# Altium integrated library Microchip Memory I2C Serial EEPROM.IntLib: 992 symbols (part 6 of 23)
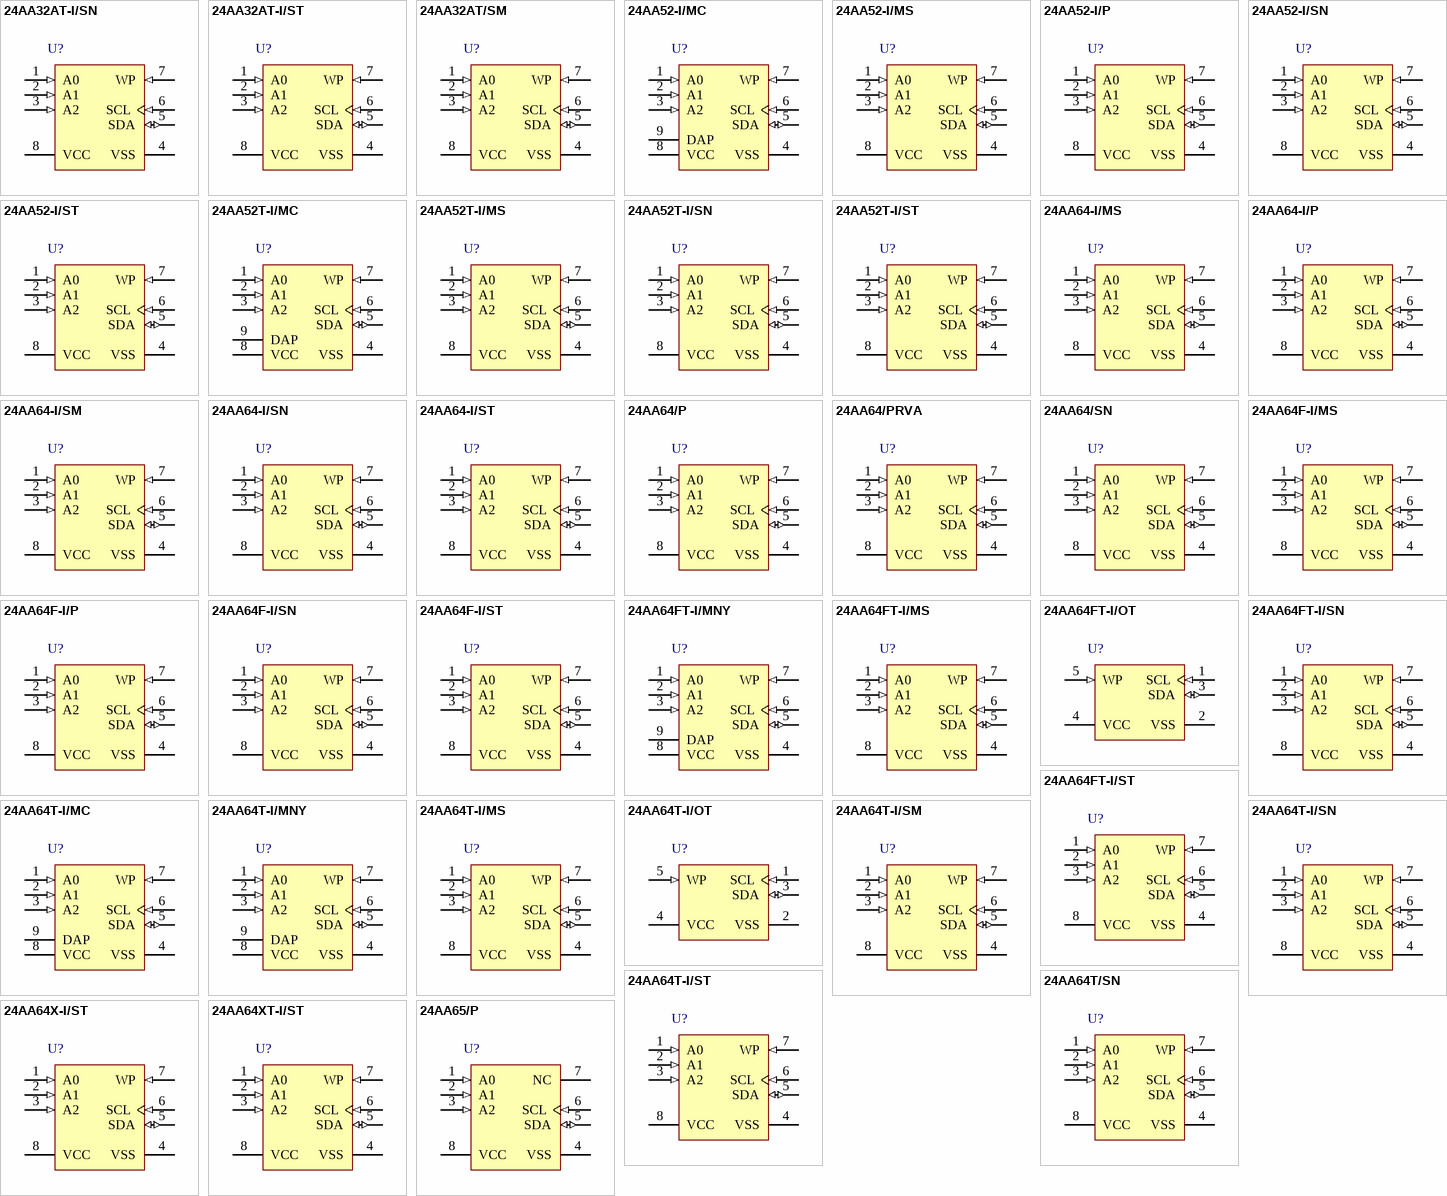
[diagram p29: symbols 24AA32AT-I/SN to 24AA65/P]

## 24AA64-I/SM
designator U?
64Kbit, 400kHz, 1.7V, I2C Serial EEPROM, 8-Pin SOIC 208mil, Industrial Temperature; Published: 29-Jan-2009; DatasheetVersion: revQ, Jun-2009; PackageVersion: revBB, Aug-2009; PackageReference: SOIJ-SM8; Publisher: Altium Limited; PackageDescription: 8-Lead Plastic Small Outline (SM) - Medium, 5.28 mm Body [SOIJ]; Supplier 1: Digi-Key; Supplier Part Number 1: 24AA64-I/SM-ND; ComponentLink1Description: Datasheet; ComponentLink1URL: http://ww1.microchip.com/downloads/en/DeviceDoc/21189Q.pdf; ComponentLink2Description: Packaging Specification; ComponentLink2URL: http://www.microchip.com/stellent/groups/techpub_sg/documents/packagingspec/en012702.pdf; ComponentLink3Description: Microchip.com Home; ComponentLink3URL: http://www.microchip.com/
footprint SOIJ-SM8_N (SOP, 8-Leads, Body 5.2x5.2mm, Pitch 1.27mm, IPC Medium Density)
footprint SOIJ-SM8_L (SOP, 8-Leads, Body 5.2x5.2mm, Pitch 1.27mm, IPC High Density)
footprint SOIJ-SM8_M (SOP, 8-Leads, Body 5.2x5.2mm, Pitch 1.27mm, IPC Low Density)
pins: 1 A0 (in), 2 A1 (in), 3 A2 (in), 4 VSS (power), 5 SDA (io), 6 SCL (in), 7 WP (in), 8 VCC (power)

## 24AA64-I/SN
designator U?
64Kbit, 400kHz, 1.7V, I2C Serial EEPROM, 8-Pin SOIC 150mil, Industrial Temperature; Published: 29-Jan-2009; DatasheetVersion: revQ, Jun-2009; PackageVersion: revBB, Aug-2009; PackageReference: SOIC-SN8; Publisher: Altium Limited; PackageDescription: 8-Lead Plastic Small Outline (SN) - Narrow, 3.90mm Body [SOIC]; Supplier 1: Digi-Key; Supplier Part Number 1: 24AA64-I/SN-ND; Supplier 2: Farnell; Supplier Part Number 2: 1331304; Code_JEDEC: MS-012; Code_IPC: SOIC127P600-8; ComponentLink1Description: Datasheet; ComponentLink1URL: http://ww1.microchip.com/downloads/en/DeviceDoc/21189Q.pdf; ComponentLink2Description: Packaging Specification; ComponentLink2URL: http://www.microchip.com/stellent/groups/techpub_sg/documents/packagingspec/en012702.pdf; ComponentLink3Description: Microchip.com Home; ComponentLink3URL: http://www.microchip.com/
footprint SOIC-SN8_N (SOIC, 8-Leads, Body 4.9x3.8mm, Pitch 1.27mm, IPC Medium Density)
footprint SOIC-SN8_L (SOIC, 8-Leads, Body 4.9x3.8mm, Pitch 1.27mm, IPC High Density)
footprint SOIC-SN8_M (SOIC, 8-Leads, Body 4.9x3.8mm, Pitch 1.27mm, IPC Low Density)
pins: 1 A0 (in), 2 A1 (in), 3 A2 (in), 4 VSS (power), 5 SDA (io), 6 SCL (in), 7 WP (in), 8 VCC (power)

## 24AA64-I/ST
designator U?
64Kbit, 400kHz, 1.7V, I2C Serial EEPROM, 8-Pin TSSOP, Industrial Temperature; Published: 29-Jan-2009; DatasheetVersion: revQ, Jun-2009; PackageVersion: revBB, Aug-2009; PackageReference: TSSOP-ST8; Publisher: Altium Limited; PackageDescription: 8-Lead Plastic Thin Shrink Small Outline (ST) - 4.4mm Body [TSSOP]; Supplier 1: Digi-Key; Supplier Part Number 1: 24AA64-I/ST-ND; Code_JEDEC: MO-153; ComponentLink1Description: Datasheet; ComponentLink1URL: http://ww1.microchip.com/downloads/en/DeviceDoc/21189Q.pdf; ComponentLink2Description: Packaging Specification; ComponentLink2URL: http://www.microchip.com/stellent/groups/techpub_sg/documents/packagingspec/en012702.pdf; ComponentLink3Description: Microchip.com Home; ComponentLink3URL: http://www.microchip.com/
footprint TSSOP-ST8_N (TSOP, 8-Leads, Body 3x4.4mm, Pitch 0.65mm, IPC Medium Density)
footprint TSSOP-ST8_L (TSOP, 8-Leads, Body 3x4.4mm, Pitch 0.65mm, IPC High Density)
footprint TSSOP-ST8_M (TSOP, 8-Leads, Body 3x4.4mm, Pitch 0.65mm, IPC Low Density)
pins: 1 A0 (in), 2 A1 (in), 3 A2 (in), 4 VSS (power), 5 SDA (io), 6 SCL (in), 7 WP (in), 8 VCC (power)

## 24AA64/P
designator U?
64Kbit, 400kHz, 1.7V, I2C Serial EEPROM, 8-Pin PDIP, Commercial Temperature; Published: 29-Jan-2009; DatasheetVersion: revQ, Jun-2009; PackageVersion: revBB, Aug-2009; PackageReference: PDIP300-P8; Publisher: Altium Limited; PackageDescription: 8-Lead Plastic Dual In-Line (P) - 300 mil Body [PDIP]; Supplier 1: Digi-Key; Supplier Part Number 1: 24AA64/P-ND; Code_JEDEC: MS-001; ComponentLink1Description: Datasheet; ComponentLink1URL: http://ww1.microchip.com/downloads/en/DeviceDoc/21189Q.pdf; ComponentLink2Description: Packaging Specification; ComponentLink2URL: http://www.microchip.com/stellent/groups/techpub_sg/documents/packagingspec/en012702.pdf; ComponentLink3Description: Microchip.com Home; ComponentLink3URL: http://www.microchip.com/
footprint PDIP300-P8 (DIP, 8-Leads, Row Spacing 7.62mm, Pitch 2.54mm, Body 9.5x6.6mm)
pins: 1 A0 (in), 2 A1 (in), 3 A2 (in), 4 VSS (power), 5 SDA (io), 6 SCL (in), 7 WP (in), 8 VCC (power)

## 24AA64/PRVA
designator U?
64Kbit, 400kHz, 1.7V, I2C Serial EEPROM, 8-Pin PDIP, Commercial TemperatureDuplicate; ComponentAvailability: Unknown. Contact manufacturer to determine status.; Published: 29-Jan-2009; DatasheetVersion: revQ, Jun-2009; PackageVersion: revBB, Aug-2009; PackageReference: PDIP300-P8; Publisher: Altium Limited; PackageDescription: 8-Lead Plastic Dual In-Line (P) - 300 mil Body [PDIP]; Code_JEDEC: MS-001; ComponentLink1Description: Datasheet; ComponentLink1URL: http://ww1.microchip.com/downloads/en/DeviceDoc/21189Q.pdf; ComponentLink2Description: Packaging Specification; ComponentLink2URL: http://www.microchip.com/stellent/groups/techpub_sg/documents/packagingspec/en012702.pdf; ComponentLink3Description: Microchip.com Home; ComponentLink3URL: http://www.microchip.com/
footprint PDIP300-P8 (DIP, 8-Leads, Row Spacing 7.62mm, Pitch 2.54mm, Body 9.5x6.6mm)
pins: 1 A0 (in), 2 A1 (in), 3 A2 (in), 4 VSS (power), 5 SDA (io), 6 SCL (in), 7 WP (in), 8 VCC (power)

## 24AA64/SN
designator U?
64Kbit, 400kHz, 1.7V, I2C Serial EEPROM, 8-Pin SOIC 150mil, Commercial Temperature; Published: 29-Jan-2009; DatasheetVersion: revQ, Jun-2009; PackageVersion: revBB, Aug-2009; PackageReference: SOIC-SN8; Publisher: Altium Limited; PackageDescription: 8-Lead Plastic Small Outline (SN) - Narrow, 3.90mm Body [SOIC]; Supplier 1: Digi-Key; Supplier Part Number 1: 24AA64/SN-ND; Code_JEDEC: MS-012; Code_IPC: SOIC127P600-8; ComponentLink1Description: Datasheet; ComponentLink1URL: http://ww1.microchip.com/downloads/en/DeviceDoc/21189Q.pdf; ComponentLink2Description: Packaging Specification; ComponentLink2URL: http://www.microchip.com/stellent/groups/techpub_sg/documents/packagingspec/en012702.pdf; ComponentLink3Description: Microchip.com Home; ComponentLink3URL: http://www.microchip.com/
footprint SOIC-SN8_N (SOIC, 8-Leads, Body 4.9x3.8mm, Pitch 1.27mm, IPC Medium Density)
footprint SOIC-SN8_L (SOIC, 8-Leads, Body 4.9x3.8mm, Pitch 1.27mm, IPC High Density)
footprint SOIC-SN8_M (SOIC, 8-Leads, Body 4.9x3.8mm, Pitch 1.27mm, IPC Low Density)
pins: 1 A0 (in), 2 A1 (in), 3 A2 (in), 4 VSS (power), 5 SDA (io), 6 SCL (in), 7 WP (in), 8 VCC (power)

## 24AA64F-I/MS
designator U?
64Kbit, 400kHz, 1.7V, I2C Serial EEPROM, 8-Pin MSOP, Industrial Temperature; Published: 2-Dec-2009; DatasheetVersion: revA, May-2009; PackageVersion: revBB, Aug-2009; PackageReference: MSOP-MS8; Publisher: Altium Limited; PackageDescription: 8-Lead Plastic Micro Small Outline Package (MS) [MSOP]; Supplier 1: Digi-Key; Supplier Part Number 1: 24AA64F-I/MS-ND; ComponentLink1Description: Datasheet; ComponentLink1URL: http://ww1.microchip.com/downloads/en/DeviceDoc/22154A.pdf; ComponentLink2Description: Packaging Specification; ComponentLink2URL: http://www.microchip.com/stellent/groups/techpub_sg/documents/packagingspec/en012702.pdf; ComponentLink3Description: Microchip.com Home; ComponentLink3URL: http://www.microchip.com/
footprint MSOP-MS8_N (TSOP, 8-Leads, Body 3x3mm, Pitch 0.65mm, IPC Medium Density)
footprint MSOP-MS8_L (TSOP, 8-Leads, Body 3x3mm, Pitch 0.65mm, IPC High Density)
footprint MSOP-MS8_M (TSOP, 8-Leads, Body 3x3mm, Pitch 0.65mm, IPC Low Density)
pins: 1 A0 (in), 2 A1 (in), 3 A2 (in), 4 VSS (power), 5 SDA (io), 6 SCL (in), 7 WP (in), 8 VCC (power)

## 24AA64F-I/P
designator U?
64Kbit, 400kHz, 1.7V, I2C Serial EEPROM, 8-Pin PDIP, Industrial Temperature; Published: 2-Dec-2009; DatasheetVersion: revA, May-2009; PackageVersion: revBB, Aug-2009; PackageReference: PDIP300-P8; Publisher: Altium Limited; PackageDescription: 8-Lead Plastic Dual In-Line (P) - 300 mil Body [PDIP]; Supplier 1: Digi-Key; Supplier Part Number 1: 24AA64F-I/P-ND; Code_JEDEC: MS-001; ComponentLink1Description: Datasheet; ComponentLink1URL: http://ww1.microchip.com/downloads/en/DeviceDoc/22154A.pdf; ComponentLink2Description: Packaging Specification; ComponentLink2URL: http://www.microchip.com/stellent/groups/techpub_sg/documents/packagingspec/en012702.pdf; ComponentLink3Description: Microchip.com Home; ComponentLink3URL: http://www.microchip.com/
footprint PDIP300-P8 (DIP, 8-Leads, Row Spacing 7.62mm, Pitch 2.54mm, Body 9.5x6.6mm)
pins: 1 A0 (in), 2 A1 (in), 3 A2 (in), 4 VSS (power), 5 SDA (io), 6 SCL (in), 7 WP (in), 8 VCC (power)

## 24AA64F-I/SN
designator U?
64Kbit, 400kHz, 1.7V, I2C Serial EEPROM, 8-Pin SOIC 150mil, Industrial Temperature; Published: 2-Dec-2009; DatasheetVersion: revA, May-2009; PackageVersion: revBB, Aug-2009; PackageReference: SOIC-SN8; Publisher: Altium Limited; PackageDescription: 8-Lead Plastic Small Outline (SN) - Narrow, 3.90mm Body [SOIC]; Supplier 1: Digi-Key; Supplier Part Number 1: 24AA64F-I/SN-ND; Code_JEDEC: MS-012; Code_IPC: SOIC127P600-8; ComponentLink1Description: Datasheet; ComponentLink1URL: http://ww1.microchip.com/downloads/en/DeviceDoc/22154A.pdf; ComponentLink2Description: Packaging Specification; ComponentLink2URL: http://www.microchip.com/stellent/groups/techpub_sg/documents/packagingspec/en012702.pdf; ComponentLink3Description: Microchip.com Home; ComponentLink3URL: http://www.microchip.com/
footprint SOIC-SN8_N (SOIC, 8-Leads, Body 4.9x3.8mm, Pitch 1.27mm, IPC Medium Density)
footprint SOIC-SN8_L (SOIC, 8-Leads, Body 4.9x3.8mm, Pitch 1.27mm, IPC High Density)
footprint SOIC-SN8_M (SOIC, 8-Leads, Body 4.9x3.8mm, Pitch 1.27mm, IPC Low Density)
pins: 1 A0 (in), 2 A1 (in), 3 A2 (in), 4 VSS (power), 5 SDA (io), 6 SCL (in), 7 WP (in), 8 VCC (power)

## 24AA64F-I/ST
designator U?
64Kbit, 400kHz, 1.7V, I2C Serial EEPROM, 8-Pin TSSOP, Industrial Temperature; Published: 2-Dec-2009; DatasheetVersion: revA, May-2009; PackageVersion: revBB, Aug-2009; PackageReference: TSSOP-ST8; Publisher: Altium Limited; PackageDescription: 8-Lead Plastic Thin Shrink Small Outline (ST) - 4.4mm Body [TSSOP]; Supplier 1: Digi-Key; Supplier Part Number 1: 24AA64F-I/ST-ND; Code_JEDEC: MO-153; ComponentLink1Description: Datasheet; ComponentLink1URL: http://ww1.microchip.com/downloads/en/DeviceDoc/22154A.pdf; ComponentLink2Description: Packaging Specification; ComponentLink2URL: http://www.microchip.com/stellent/groups/techpub_sg/documents/packagingspec/en012702.pdf; ComponentLink3Description: Microchip.com Home; ComponentLink3URL: http://www.microchip.com/
footprint TSSOP-ST8_N (TSOP, 8-Leads, Body 3x4.4mm, Pitch 0.65mm, IPC Medium Density)
footprint TSSOP-ST8_L (TSOP, 8-Leads, Body 3x4.4mm, Pitch 0.65mm, IPC High Density)
footprint TSSOP-ST8_M (TSOP, 8-Leads, Body 3x4.4mm, Pitch 0.65mm, IPC Low Density)
pins: 1 A0 (in), 2 A1 (in), 3 A2 (in), 4 VSS (power), 5 SDA (io), 6 SCL (in), 7 WP (in), 8 VCC (power)

## 24AA64FT-I/MNY
designator U?
64Kbit, 400kHz, 1.7V, I2C Serial EEPROM, 8-Pin TDFN (NiPdAu finish), Industrial Temperature, Tape and Reel; Published: 2-Dec-2009; DatasheetVersion: revA, May-2009; PackageVersion: revBB, Aug-2009; PackageReference: TDFN-MN8; Publisher: Altium Limited; PackageDescription: 8-Lead Plastic Dual Flat, No Lead Package (MN) - 2x3x0.75mm Body [TDFN]; Supplier 1: Digi-Key; Supplier Part Number 1: 24AA64FT-I/MNYTR-ND; Supplier 2: Digi-Key; Supplier Part Number 2: 24AA64FT-I/MNYCT-ND; Supplier 3: Digi-Key; Supplier Part Number 3: 24AA64FT-I/MNYDKR-ND; ComponentLink1Description: Datasheet; ComponentLink1URL: http://ww1.microchip.com/downloads/en/DeviceDoc/22154A.pdf; ComponentLink2Description: Packaging Specification; ComponentLink2URL: http://www.microchip.com/stellent/groups/techpub_sg/documents/packagingspec/en012702.pdf; ComponentLink3Description: Microchip.com Home; ComponentLink3URL: http://www.microchip.com/
footprint TDFN-MN8 (SON, 8-Leads, Body 2x3mm, Pitch 0.5mm, Microchip Recommended)
pins: 1 A0 (in), 2 A1 (in), 3 A2 (in), 4 VSS (power), 5 SDA (io), 6 SCL (in), 7 WP (in), 8 VCC (power), 9 DAP (power)

## 24AA64FT-I/MS
designator U?
64Kbit, 400kHz, 1.7V, I2C Serial EEPROM, 8-Pin MSOP, Industrial Temperature, Tape and Reel; Published: 2-Dec-2009; DatasheetVersion: revA, May-2009; PackageVersion: revBB, Aug-2009; PackageReference: MSOP-MS8; Publisher: Altium Limited; PackageDescription: 8-Lead Plastic Micro Small Outline Package (MS) [MSOP]; Supplier 1: Digi-Key; Supplier Part Number 1: 24AA64FT-I/MS-ND; ComponentLink1Description: Datasheet; ComponentLink1URL: http://ww1.microchip.com/downloads/en/DeviceDoc/22154A.pdf; ComponentLink2Description: Packaging Specification; ComponentLink2URL: http://www.microchip.com/stellent/groups/techpub_sg/documents/packagingspec/en012702.pdf; ComponentLink3Description: Microchip.com Home; ComponentLink3URL: http://www.microchip.com/
footprint MSOP-MS8_N (TSOP, 8-Leads, Body 3x3mm, Pitch 0.65mm, IPC Medium Density)
footprint MSOP-MS8_L (TSOP, 8-Leads, Body 3x3mm, Pitch 0.65mm, IPC High Density)
footprint MSOP-MS8_M (TSOP, 8-Leads, Body 3x3mm, Pitch 0.65mm, IPC Low Density)
pins: 1 A0 (in), 2 A1 (in), 3 A2 (in), 4 VSS (power), 5 SDA (io), 6 SCL (in), 7 WP (in), 8 VCC (power)

## 24AA64FT-I/OT
designator U?
64Kbit, 400kHz, 1.7V, I2C Serial EEPROM, 5-Pin SOT-23, Industrial Temperature, Tape and Reel; Published: 2-Dec-2009; DatasheetVersion: revA, May-2009; PackageVersion: revBB, Aug-2009; PackageReference: SOT-23-OT5; Publisher: Altium Limited; PackageDescription: 5-Lead Plastic Small Outline Transistor (OT) [SOT-23]; Supplier 1: Digi-Key; Supplier Part Number 1: 24AA64FT-I/OTTR-ND; Supplier 2: Digi-Key; Supplier Part Number 2: 24AA64FT-I/OTCT-ND; Supplier 3: Digi-Key; Supplier Part Number 3: 24AA64FT-I/OTDKR-ND; Code_IPC: SOT23-5; ComponentLink1Description: Datasheet; ComponentLink1URL: http://ww1.microchip.com/downloads/en/DeviceDoc/22154A.pdf; ComponentLink2Description: Packaging Specification; ComponentLink2URL: http://www.microchip.com/stellent/groups/techpub_sg/documents/packagingspec/en012702.pdf; ComponentLink3Description: Microchip.com Home; ComponentLink3URL: http://www.microchip.com/
footprint SOT-23-OT5_N (SOT23, 5-Leads, Body 2.9x1.6mm, Pitch 0.95mm, Lead Span 2.7mm, IPC Medium Density)
footprint SOT-23-OT5_L (SOT23, 5-Leads, Body 2.9x1.6mm, Pitch 0.95mm, Lead Span 2.7mm, IPC High Density)
footprint SOT-23-OT5_M (SOT23, 5-Leads, Body 2.9x1.6mm, Pitch 0.95mm, Lead Span 2.7mm, IPC Low Density)
pins: 1 SCL (in), 2 VSS (power), 3 SDA (io), 4 VCC (power), 5 WP (in)

## 24AA64FT-I/SN
designator U?
64Kbit, 400kHz, 1.7V, I2C Serial EEPROM, 8-Pin SOIC 150mil, Industrial Temperature, Tape and Reel; Published: 2-Dec-2009; DatasheetVersion: revA, May-2009; PackageVersion: revBB, Aug-2009; PackageReference: SOIC-SN8; Publisher: Altium Limited; PackageDescription: 8-Lead Plastic Small Outline (SN) - Narrow, 3.90mm Body [SOIC]; Supplier 1: Digi-Key; Supplier Part Number 1: 24AA64FT-I/SN-ND; Code_JEDEC: MS-012; Code_IPC: SOIC127P600-8; ComponentLink1Description: Datasheet; ComponentLink1URL: http://ww1.microchip.com/downloads/en/DeviceDoc/22154A.pdf; ComponentLink2Description: Packaging Specification; ComponentLink2URL: http://www.microchip.com/stellent/groups/techpub_sg/documents/packagingspec/en012702.pdf; ComponentLink3Description: Microchip.com Home; ComponentLink3URL: http://www.microchip.com/
footprint SOIC-SN8_N (SOIC, 8-Leads, Body 4.9x3.8mm, Pitch 1.27mm, IPC Medium Density)
footprint SOIC-SN8_L (SOIC, 8-Leads, Body 4.9x3.8mm, Pitch 1.27mm, IPC High Density)
footprint SOIC-SN8_M (SOIC, 8-Leads, Body 4.9x3.8mm, Pitch 1.27mm, IPC Low Density)
pins: 1 A0 (in), 2 A1 (in), 3 A2 (in), 4 VSS (power), 5 SDA (io), 6 SCL (in), 7 WP (in), 8 VCC (power)

## 24AA64FT-I/ST
designator U?
64Kbit, 400kHz, 1.7V, I2C Serial EEPROM, 8-Pin TSSOP, Industrial Temperature, Tape and Reel; Published: 2-Dec-2009; DatasheetVersion: revA, May-2009; PackageVersion: revBB, Aug-2009; PackageReference: TSSOP-ST8; Publisher: Altium Limited; PackageDescription: 8-Lead Plastic Thin Shrink Small Outline (ST) - 4.4mm Body [TSSOP]; Supplier 1: Digi-Key; Supplier Part Number 1: 24AA64FT-I/ST-ND; Code_JEDEC: MO-153; ComponentLink1Description: Datasheet; ComponentLink1URL: http://ww1.microchip.com/downloads/en/DeviceDoc/22154A.pdf; ComponentLink2Description: Packaging Specification; ComponentLink2URL: http://www.microchip.com/stellent/groups/techpub_sg/documents/packagingspec/en012702.pdf; ComponentLink3Description: Microchip.com Home; ComponentLink3URL: http://www.microchip.com/
footprint TSSOP-ST8_N (TSOP, 8-Leads, Body 3x4.4mm, Pitch 0.65mm, IPC Medium Density)
footprint TSSOP-ST8_L (TSOP, 8-Leads, Body 3x4.4mm, Pitch 0.65mm, IPC High Density)
footprint TSSOP-ST8_M (TSOP, 8-Leads, Body 3x4.4mm, Pitch 0.65mm, IPC Low Density)
pins: 1 A0 (in), 2 A1 (in), 3 A2 (in), 4 VSS (power), 5 SDA (io), 6 SCL (in), 7 WP (in), 8 VCC (power)

## 24AA64T-I/MC
designator U?
64Kbit, 400kHz, 1.7V, I2C Serial EEPROM, 8-Pin DFN, Industrial Temperature, Tape and Reel; Published: 29-Jan-2009; DatasheetVersion: revQ, Jun-2009; PackageVersion: revBB, Aug-2009; PackageReference: DFN-MC8; Publisher: Altium Limited; PackageDescription: 8-Lead Plastic Dual Flat, No Lead Package (MC) - 2x3x0.9mm Body [DFN]; Supplier 1: Digi-Key; Supplier Part Number 1: 24AA64T-I/MCTR-ND; Supplier 2: Digi-Key; Supplier Part Number 2: 24AA64T-I/MCCT-ND; Supplier 3: Digi-Key; Supplier Part Number 3: 24AA64T-I/MCDKR-ND; Supplier 4: Farnell; Supplier Part Number 4: 1331305; ComponentLink1Description: Datasheet; ComponentLink1URL: http://ww1.microchip.com/downloads/en/DeviceDoc/21189Q.pdf; ComponentLink2Description: Packaging Specification; ComponentLink2URL: http://www.microchip.com/stellent/groups/techpub_sg/documents/packagingspec/en012702.pdf; ComponentLink3Description: Microchip.com Home; ComponentLink3URL: http://www.microchip.com/
footprint DFN-MC8 (SON, 8-Leads, Body 2x3mm, Pitch 0.5mm, Microchip Recommended)
pins: 1 A0 (in), 2 A1 (in), 3 A2 (in), 4 VSS (power), 5 SDA (io), 6 SCL (in), 7 WP (in), 8 VCC (power), 9 DAP (power)

## 24AA64T-I/MNY
designator U?
64Kbit, 400kHz, 1.7V, I2C Serial EEPROM, 8-Pin TDFN (NiPdAu finish), Industrial Temperature, Tape and Reel; Published: 2-Dec-2009; DatasheetVersion: revQ, Jun-2009; PackageVersion: revBB, Aug-2009; PackageReference: TDFN-MN8; Publisher: Altium Limited; PackageDescription: 8-Lead Plastic Dual Flat, No Lead Package (MN) - 2x3x0.75mm Body [TDFN]; Supplier 1: Digi-Key; Supplier Part Number 1: 24AA64T-I/MNYTR-ND; Supplier 2: Digi-Key; Supplier Part Number 2: 24AA64T-I/MNYCT-ND; Supplier 3: Digi-Key; Supplier Part Number 3: 24AA64T-I/MNYDKR-ND; ComponentLink1Description: Datasheet; ComponentLink1URL: http://ww1.microchip.com/downloads/en/DeviceDoc/21189Q.pdf; ComponentLink2Description: Packaging Specification; ComponentLink2URL: http://www.microchip.com/stellent/groups/techpub_sg/documents/packagingspec/en012702.pdf; ComponentLink3Description: Microchip.com Home; ComponentLink3URL: http://www.microchip.com/
footprint TDFN-MN8 (SON, 8-Leads, Body 2x3mm, Pitch 0.5mm, Microchip Recommended)
pins: 1 A0 (in), 2 A1 (in), 3 A2 (in), 4 VSS (power), 5 SDA (io), 6 SCL (in), 7 WP (in), 8 VCC (power), 9 DAP (power)

## 24AA64T-I/MS
designator U?
64Kbit, 400kHz, 1.7V, I2C Serial EEPROM, 8-Pin MSOP, Industrial Temperature, Tape and Reel; Published: 29-Jan-2009; DatasheetVersion: revQ, Jun-2009; PackageVersion: revBB, Aug-2009; PackageReference: MSOP-MS8; Publisher: Altium Limited; PackageDescription: 8-Lead Plastic Micro Small Outline Package (MS) [MSOP]; Supplier 1: Digi-Key; Supplier Part Number 1: 24AA64T-I/MS-ND; ComponentLink1Description: Datasheet; ComponentLink1URL: http://ww1.microchip.com/downloads/en/DeviceDoc/21189Q.pdf; ComponentLink2Description: Packaging Specification; ComponentLink2URL: http://www.microchip.com/stellent/groups/techpub_sg/documents/packagingspec/en012702.pdf; ComponentLink3Description: Microchip.com Home; ComponentLink3URL: http://www.microchip.com/
footprint MSOP-MS8_N (TSOP, 8-Leads, Body 3x3mm, Pitch 0.65mm, IPC Medium Density)
footprint MSOP-MS8_L (TSOP, 8-Leads, Body 3x3mm, Pitch 0.65mm, IPC High Density)
footprint MSOP-MS8_M (TSOP, 8-Leads, Body 3x3mm, Pitch 0.65mm, IPC Low Density)
pins: 1 A0 (in), 2 A1 (in), 3 A2 (in), 4 VSS (power), 5 SDA (io), 6 SCL (in), 7 WP (in), 8 VCC (power)

## 24AA64T-I/OT
designator U?
64Kbit, 400kHz, 1.7V, I2C Serial EEPROM, 5-Pin SOT-23, Industrial Temperature, Tape and Reel; Published: 2-Dec-2009; DatasheetVersion: revQ, Jun-2009; PackageVersion: revBB, Aug-2009; PackageReference: SOT-23-OT5; Publisher: Altium Limited; PackageDescription: 5-Lead Plastic Small Outline Transistor (OT) [SOT-23]; Supplier 1: Digi-Key; Supplier Part Number 1: 24AA64T-I/OTTR-ND; Supplier 2: Digi-Key; Supplier Part Number 2: 24AA64T-I/OTCT-ND; Supplier 3: Digi-Key; Supplier Part Number 3: 24AA64T-I/OTDKR-ND; Supplier 4: Farnell; Supplier Part Number 4: 1818493; Code_IPC: SOT23-5; ComponentLink1Description: Datasheet; ComponentLink1URL: http://ww1.microchip.com/downloads/en/DeviceDoc/21189Q.pdf; ComponentLink2Description: Packaging Specification; ComponentLink2URL: http://www.microchip.com/stellent/groups/techpub_sg/documents/packagingspec/en012702.pdf; ComponentLink3Description: Microchip.com Home; ComponentLink3URL: http://www.microchip.com/
footprint SOT-23-OT5_N (SOT23, 5-Leads, Body 2.9x1.6mm, Pitch 0.95mm, Lead Span 2.7mm, IPC Medium Density)
footprint SOT-23-OT5_L (SOT23, 5-Leads, Body 2.9x1.6mm, Pitch 0.95mm, Lead Span 2.7mm, IPC High Density)
footprint SOT-23-OT5_M (SOT23, 5-Leads, Body 2.9x1.6mm, Pitch 0.95mm, Lead Span 2.7mm, IPC Low Density)
pins: 1 SCL (in), 2 VSS (power), 3 SDA (io), 4 VCC (power), 5 WP (in)

## 24AA64T-I/SM
designator U?
64Kbit, 400kHz, 1.7V, I2C Serial EEPROM, 8-Pin SOIC 208mil, Industrial Temperature, Tape and Reel; Published: 29-Jan-2009; DatasheetVersion: revQ, Jun-2009; PackageVersion: revBB, Aug-2009; PackageReference: SOIJ-SM8; Publisher: Altium Limited; PackageDescription: 8-Lead Plastic Small Outline (SM) - Medium, 5.28 mm Body [SOIJ]; Supplier 1: Digi-Key; Supplier Part Number 1: 24AA64T-I/SM-ND; ComponentLink1Description: Datasheet; ComponentLink1URL: http://ww1.microchip.com/downloads/en/DeviceDoc/21189Q.pdf; ComponentLink2Description: Packaging Specification; ComponentLink2URL: http://www.microchip.com/stellent/groups/techpub_sg/documents/packagingspec/en012702.pdf; ComponentLink3Description: Microchip.com Home; ComponentLink3URL: http://www.microchip.com/
footprint SOIJ-SM8_N (SOP, 8-Leads, Body 5.2x5.2mm, Pitch 1.27mm, IPC Medium Density)
footprint SOIJ-SM8_L (SOP, 8-Leads, Body 5.2x5.2mm, Pitch 1.27mm, IPC High Density)
footprint SOIJ-SM8_M (SOP, 8-Leads, Body 5.2x5.2mm, Pitch 1.27mm, IPC Low Density)
pins: 1 A0 (in), 2 A1 (in), 3 A2 (in), 4 VSS (power), 5 SDA (io), 6 SCL (in), 7 WP (in), 8 VCC (power)

## 24AA64T-I/SN
designator U?
64Kbit, 400kHz, 1.7V, I2C Serial EEPROM, 8-Pin SOIC 150mil, Industrial Temperature, Tape and Reel; Published: 29-Jan-2009; DatasheetVersion: revQ, Jun-2009; PackageVersion: revBB, Aug-2009; PackageReference: SOIC-SN8; Publisher: Altium Limited; PackageDescription: 8-Lead Plastic Small Outline (SN) - Narrow, 3.90mm Body [SOIC]; Supplier 1: Digi-Key; Supplier Part Number 1: 24AA64T-I/SN-ND; Code_JEDEC: MS-012; Code_IPC: SOIC127P600-8; ComponentLink1Description: Datasheet; ComponentLink1URL: http://ww1.microchip.com/downloads/en/DeviceDoc/21189Q.pdf; ComponentLink2Description: Packaging Specification; ComponentLink2URL: http://www.microchip.com/stellent/groups/techpub_sg/documents/packagingspec/en012702.pdf; ComponentLink3Description: Microchip.com Home; ComponentLink3URL: http://www.microchip.com/
footprint SOIC-SN8_N (SOIC, 8-Leads, Body 4.9x3.8mm, Pitch 1.27mm, IPC Medium Density)
footprint SOIC-SN8_L (SOIC, 8-Leads, Body 4.9x3.8mm, Pitch 1.27mm, IPC High Density)
footprint SOIC-SN8_M (SOIC, 8-Leads, Body 4.9x3.8mm, Pitch 1.27mm, IPC Low Density)
pins: 1 A0 (in), 2 A1 (in), 3 A2 (in), 4 VSS (power), 5 SDA (io), 6 SCL (in), 7 WP (in), 8 VCC (power)

## 24AA64T-I/ST
designator U?
64Kbit, 400kHz, 1.7V, I2C Serial EEPROM, 8-Pin TSSOP, Industrial Temperature, Tape and Reel; Published: 29-Jan-2009; DatasheetVersion: revQ, Jun-2009; PackageVersion: revBB, Aug-2009; PackageReference: TSSOP-ST8; Publisher: Altium Limited; PackageDescription: 8-Lead Plastic Thin Shrink Small Outline (ST) - 4.4mm Body [TSSOP]; Supplier 1: Digi-Key; Supplier Part Number 1: 24AA64T-I/ST-ND; Code_JEDEC: MO-153; ComponentLink1Description: Datasheet; ComponentLink1URL: http://ww1.microchip.com/downloads/en/DeviceDoc/21189Q.pdf; ComponentLink2Description: Packaging Specification; ComponentLink2URL: http://www.microchip.com/stellent/groups/techpub_sg/documents/packagingspec/en012702.pdf; ComponentLink3Description: Microchip.com Home; ComponentLink3URL: http://www.microchip.com/
footprint TSSOP-ST8_N (TSOP, 8-Leads, Body 3x4.4mm, Pitch 0.65mm, IPC Medium Density)
footprint TSSOP-ST8_L (TSOP, 8-Leads, Body 3x4.4mm, Pitch 0.65mm, IPC High Density)
footprint TSSOP-ST8_M (TSOP, 8-Leads, Body 3x4.4mm, Pitch 0.65mm, IPC Low Density)
pins: 1 A0 (in), 2 A1 (in), 3 A2 (in), 4 VSS (power), 5 SDA (io), 6 SCL (in), 7 WP (in), 8 VCC (power)

## 24AA64T/SN
designator U?
64Kbit, 400kHz, 1.7V, I2C Serial EEPROM, 8-Pin SOIC 150mil, Commercial Temperature, Tape and Reel; Published: 29-Jan-2009; DatasheetVersion: revQ, Jun-2009; PackageVersion: revBB, Aug-2009; PackageReference: SOIC-SN8; Publisher: Altium Limited; PackageDescription: 8-Lead Plastic Small Outline (SN) - Narrow, 3.90mm Body [SOIC]; Supplier 1: Digi-Key; Supplier Part Number 1: 24AA64T/SN-ND; Code_JEDEC: MS-012; Code_IPC: SOIC127P600-8; ComponentLink1Description: Datasheet; ComponentLink1URL: http://ww1.microchip.com/downloads/en/DeviceDoc/21189Q.pdf; ComponentLink2Description: Packaging Specification; ComponentLink2URL: http://www.microchip.com/stellent/groups/techpub_sg/documents/packagingspec/en012702.pdf; ComponentLink3Description: Microchip.com Home; ComponentLink3URL: http://www.microchip.com/
footprint SOIC-SN8_N (SOIC, 8-Leads, Body 4.9x3.8mm, Pitch 1.27mm, IPC Medium Density)
footprint SOIC-SN8_L (SOIC, 8-Leads, Body 4.9x3.8mm, Pitch 1.27mm, IPC High Density)
footprint SOIC-SN8_M (SOIC, 8-Leads, Body 4.9x3.8mm, Pitch 1.27mm, IPC Low Density)
pins: 1 A0 (in), 2 A1 (in), 3 A2 (in), 4 VSS (power), 5 SDA (io), 6 SCL (in), 7 WP (in), 8 VCC (power)

## 24AA64X-I/ST
designator U?
64Kbit, 400kHz, 1.7V, I2C Serial EEPROM, 8-Pin TSSOP, Industrial Temperature; ComponentAvailability: Unknown. Contact manufacturer to determine status.; Published: 29-Jan-2009; DatasheetVersion: revQ, Jun-2009; PackageVersion: revBB, Aug-2009; PackageReference: TSSOP-ST8; Publisher: Altium Limited; PackageDescription: 8-Lead Plastic Thin Shrink Small Outline (ST) - 4.4mm Body [TSSOP]; Code_JEDEC: MO-153; ComponentLink1Description: Datasheet; ComponentLink1URL: http://ww1.microchip.com/downloads/en/DeviceDoc/21189Q.pdf; ComponentLink2Description: Packaging Specification; ComponentLink2URL: http://www.microchip.com/stellent/groups/techpub_sg/documents/packagingspec/en012702.pdf; ComponentLink3Description: Microchip.com Home; ComponentLink3URL: http://www.microchip.com/
footprint TSSOP-ST8_N (TSOP, 8-Leads, Body 3x4.4mm, Pitch 0.65mm, IPC Medium Density)
footprint TSSOP-ST8_L (TSOP, 8-Leads, Body 3x4.4mm, Pitch 0.65mm, IPC High Density)
footprint TSSOP-ST8_M (TSOP, 8-Leads, Body 3x4.4mm, Pitch 0.65mm, IPC Low Density)
pins: 1 A0 (in), 2 A1 (in), 3 A2 (in), 4 VSS (power), 5 SDA (io), 6 SCL (in), 7 WP (in), 8 VCC (power)

## 24AA64XT-I/ST
designator U?
64Kbit, 400kHz, 1.7V, I2C Serial EEPROM, 8-Pin TSSOP, Industrial Temperature, Tape and Reel; ComponentAvailability: Unknown. Contact manufacturer to determine status.; Published: 29-Jan-2009; DatasheetVersion: revQ, Jun-2009; PackageVersion: revBB, Aug-2009; PackageReference: TSSOP-ST8; Publisher: Altium Limited; PackageDescription: 8-Lead Plastic Thin Shrink Small Outline (ST) - 4.4mm Body [TSSOP]; Code_JEDEC: MO-153; ComponentLink1Description: Datasheet; ComponentLink1URL: http://ww1.microchip.com/downloads/en/DeviceDoc/21189Q.pdf; ComponentLink2Description: Packaging Specification; ComponentLink2URL: http://www.microchip.com/stellent/groups/techpub_sg/documents/packagingspec/en012702.pdf; ComponentLink3Description: Microchip.com Home; ComponentLink3URL: http://www.microchip.com/
footprint TSSOP-ST8_N (TSOP, 8-Leads, Body 3x4.4mm, Pitch 0.65mm, IPC Medium Density)
footprint TSSOP-ST8_L (TSOP, 8-Leads, Body 3x4.4mm, Pitch 0.65mm, IPC High Density)
footprint TSSOP-ST8_M (TSOP, 8-Leads, Body 3x4.4mm, Pitch 0.65mm, IPC Low Density)
pins: 1 A0 (in), 2 A1 (in), 3 A2 (in), 4 VSS (power), 5 SDA (io), 6 SCL (in), 7 WP (in), 8 VCC (power)

## 24AA65/P
designator U?
64Kbit, 400kHz, 1.8V, I2C Serial EEPROM, 8-Pin PDIP, Commercial Temperature; Published: 29-Jan-2009; DatasheetVersion: revK, Jul-2008; PackageVersion: revBB, Aug-2009; PackageReference: PDIP300-P8; Publisher: Altium Limited; PackageDescription: 8-Lead Plastic Dual In-Line (P) - 300 mil Body [PDIP]; Supplier 1: Digi-Key; Supplier Part Number 1: 24AA65/P-ND; Supplier 2: Farnell; Supplier Part Number 2: 1331306; Code_JEDEC: MS-001; ComponentLink1Description: Datasheet; ComponentLink1URL: http://ww1.microchip.com/downloads/en/DeviceDoc/21073K.pdf; ComponentLink2Description: Packaging Specification; ComponentLink2URL: http://www.microchip.com/stellent/groups/techpub_sg/documents/packagingspec/en012702.pdf; ComponentLink3Description: Microchip.com Home; ComponentLink3URL: http://www.microchip.com/
footprint PDIP300-P8 (DIP, 8-Leads, Row Spacing 7.62mm, Pitch 2.54mm, Body 9.5x6.6mm)
pins: 1 A0 (in), 2 A1 (in), 3 A2 (in), 4 VSS (power), 5 SDA (io), 6 SCL (in), 7 NC, 8 VCC (power)

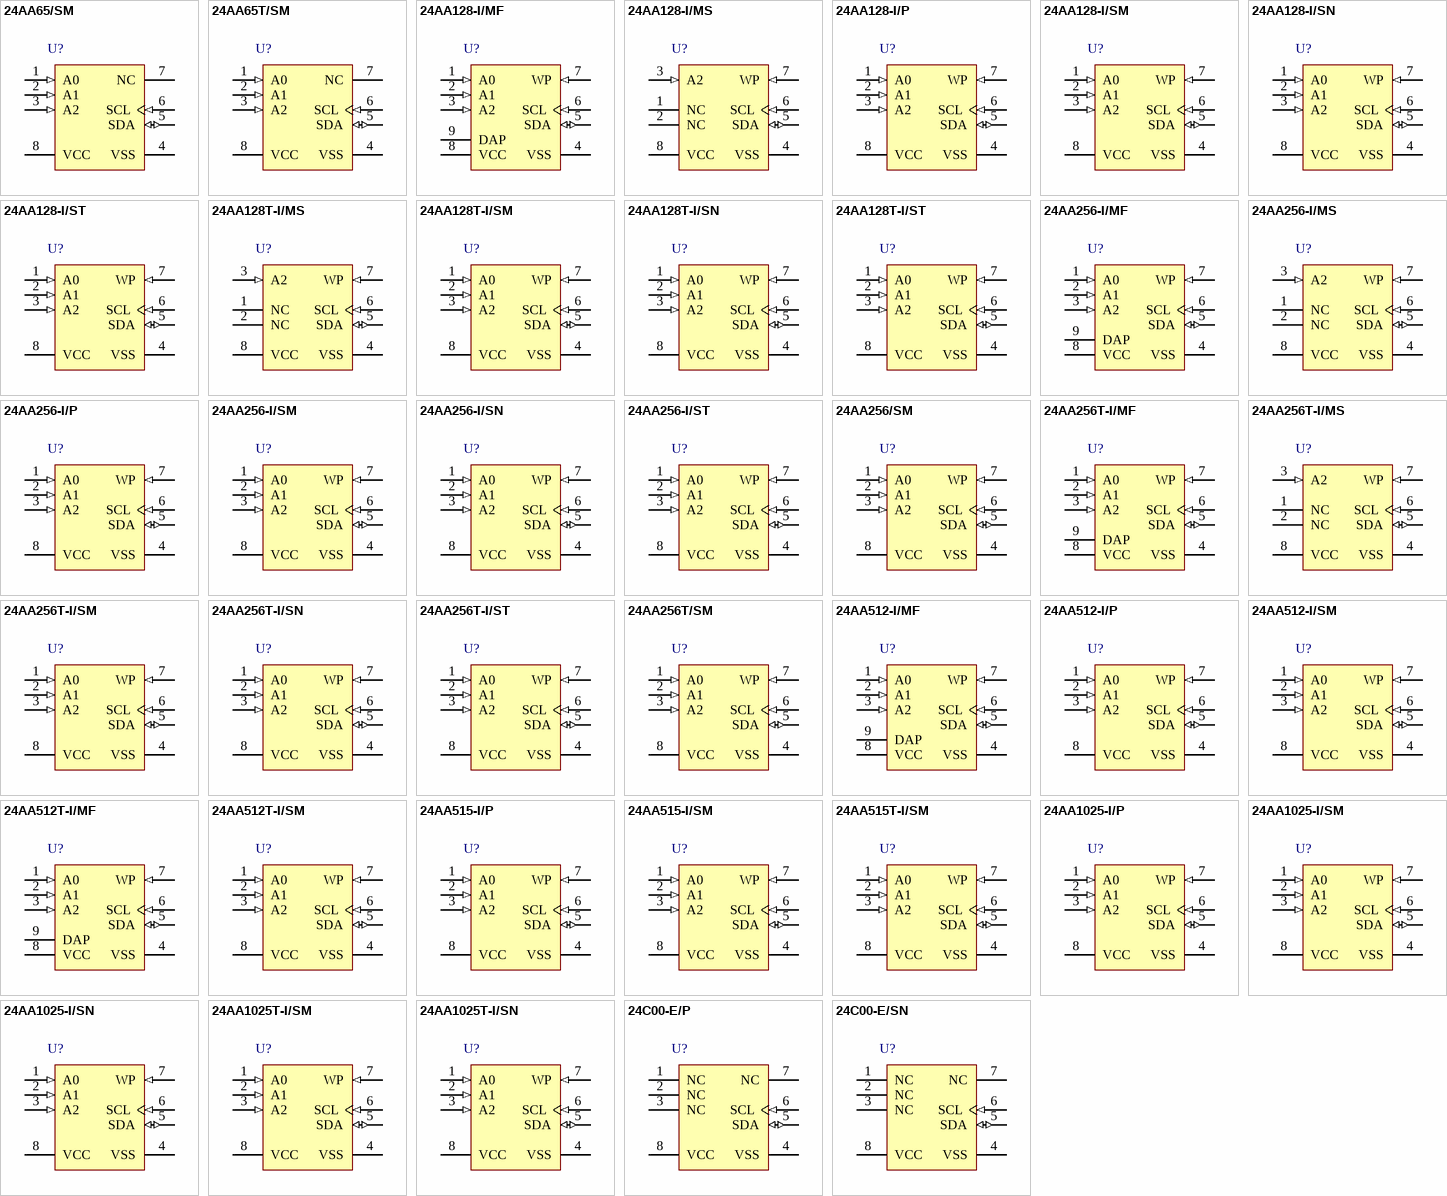
[diagram p6: symbols 24AA65/SM to 24C00-E/SN]

## 24AA65/SM
designator U?
64Kbit, 400kHz, 1.8V, I2C Serial EEPROM, 8-Pin SOIC 208mil, Commercial Temperature; Published: 29-Jan-2009; DatasheetVersion: revK, Jul-2008; PackageVersion: revBB, Aug-2009; PackageReference: SOIJ-SM8; Publisher: Altium Limited; PackageDescription: 8-Lead Plastic Small Outline (SM) - Medium, 5.28 mm Body [SOIJ]; Supplier 1: Digi-Key; Supplier Part Number 1: 24AA65/SM-ND; Supplier 2: Farnell; Supplier Part Number 2: 1331307; ComponentLink1Description: Datasheet; ComponentLink1URL: http://ww1.microchip.com/downloads/en/DeviceDoc/21073K.pdf; ComponentLink2Description: Packaging Specification; ComponentLink2URL: http://www.microchip.com/stellent/groups/techpub_sg/documents/packagingspec/en012702.pdf; ComponentLink3Description: Microchip.com Home; ComponentLink3URL: http://www.microchip.com/
footprint SOIJ-SM8_N (SOP, 8-Leads, Body 5.2x5.2mm, Pitch 1.27mm, IPC Medium Density)
footprint SOIJ-SM8_L (SOP, 8-Leads, Body 5.2x5.2mm, Pitch 1.27mm, IPC High Density)
footprint SOIJ-SM8_M (SOP, 8-Leads, Body 5.2x5.2mm, Pitch 1.27mm, IPC Low Density)
pins: 1 A0 (in), 2 A1 (in), 3 A2 (in), 4 VSS (power), 5 SDA (io), 6 SCL (in), 7 NC, 8 VCC (power)

## 24AA65T/SM
designator U?
64Kbit, 400kHz, 1.8V, I2C Serial EEPROM, 8-Pin SOIC 208mil, Commercial Temperature, Tape and Reel; Published: 29-Jan-2009; DatasheetVersion: revK, Jul-2008; PackageVersion: revBB, Aug-2009; PackageReference: SOIJ-SM8; Publisher: Altium Limited; PackageDescription: 8-Lead Plastic Small Outline (SM) - Medium, 5.28 mm Body [SOIJ]; Supplier 1: Digi-Key; Supplier Part Number 1: 24AA65T/SM-ND; ComponentLink1Description: Datasheet; ComponentLink1URL: http://ww1.microchip.com/downloads/en/DeviceDoc/21073K.pdf; ComponentLink2Description: Packaging Specification; ComponentLink2URL: http://www.microchip.com/stellent/groups/techpub_sg/documents/packagingspec/en012702.pdf; ComponentLink3Description: Microchip.com Home; ComponentLink3URL: http://www.microchip.com/
footprint SOIJ-SM8_N (SOP, 8-Leads, Body 5.2x5.2mm, Pitch 1.27mm, IPC Medium Density)
footprint SOIJ-SM8_L (SOP, 8-Leads, Body 5.2x5.2mm, Pitch 1.27mm, IPC High Density)
footprint SOIJ-SM8_M (SOP, 8-Leads, Body 5.2x5.2mm, Pitch 1.27mm, IPC Low Density)
pins: 1 A0 (in), 2 A1 (in), 3 A2 (in), 4 VSS (power), 5 SDA (io), 6 SCL (in), 7 NC, 8 VCC (power)

## 24AA128-I/MF
designator U?
128Kbit, 400kHz, 1.7V, I2C Serial EEPROM, 8-Pin DFN Punch Singulated, Industrial Temperature; Published: 29-Jan-2009; DatasheetVersion: revR, Apr-2009; PackageVersion: revBB, Aug-2009; PackageReference: DFNS-MF8_PS; Publisher: Altium Limited; PackageDescription: 8-Lead Plastic Dual Flat, No Lead Package (MF) - 6x5 mm Body [DFN-S] Punch Singulated; Supplier 1: Digi-Key; Supplier Part Number 1: 24AA128-I/MF-ND; Supplier 2: Farnell; Supplier Part Number 2: 1331284; ComponentLink1Description: Datasheet; ComponentLink1URL: http://ww1.microchip.com/downloads/en/DeviceDoc/21191R.pdf; ComponentLink2Description: Packaging Specification; ComponentLink2URL: http://www.microchip.com/stellent/groups/techpub_sg/documents/packagingspec/en012702.pdf; ComponentLink3Description: Microchip.com Home; ComponentLink3URL: http://www.microchip.com/
footprint DFNS-MF8_PS (SON, 8-Leads, Body 5x6mm, Pitch 1.27mm)
pins: 1 A0 (in), 2 A1 (in), 3 A2 (in), 4 VSS (power), 5 SDA (io), 6 SCL (in), 7 WP (in), 8 VCC (power), 9 DAP (power)

## 24AA128-I/MS
designator U?
128Kbit, 400kHz, 1.7V, I2C Serial EEPROM, 8-Pin MSOP, Industrial Temperature; Published: 29-Jan-2009; DatasheetVersion: revR, Apr-2009; PackageVersion: revBB, Aug-2009; PackageReference: MSOP-MS8; Publisher: Altium Limited; PackageDescription: 8-Lead Plastic Micro Small Outline Package (MS) [MSOP]; Supplier 1: Digi-Key; Supplier Part Number 1: 24AA128-I/MS-ND; Supplier 2: Farnell; Supplier Part Number 2: 1331285; ComponentLink1Description: Datasheet; ComponentLink1URL: http://ww1.microchip.com/downloads/en/DeviceDoc/21191R.pdf; ComponentLink2Description: Packaging Specification; ComponentLink2URL: http://www.microchip.com/stellent/groups/techpub_sg/documents/packagingspec/en012702.pdf; ComponentLink3Description: Microchip.com Home; ComponentLink3URL: http://www.microchip.com/
footprint MSOP-MS8_N (TSOP, 8-Leads, Body 3x3mm, Pitch 0.65mm, IPC Medium Density)
footprint MSOP-MS8_L (TSOP, 8-Leads, Body 3x3mm, Pitch 0.65mm, IPC High Density)
footprint MSOP-MS8_M (TSOP, 8-Leads, Body 3x3mm, Pitch 0.65mm, IPC Low Density)
pins: 1 NC, 2 NC, 3 A2 (in), 4 VSS (power), 5 SDA (io), 6 SCL (in), 7 WP (in), 8 VCC (power)

## 24AA128-I/P
designator U?
128Kbit, 400kHz, 1.7V, I2C Serial EEPROM, 8-Pin PDIP, Industrial Temperature; Published: 29-Jan-2009; DatasheetVersion: revR, Apr-2009; PackageVersion: revBB, Aug-2009; PackageReference: PDIP300-P8; Publisher: Altium Limited; PackageDescription: 8-Lead Plastic Dual In-Line (P) - 300 mil Body [PDIP]; Supplier 1: Digi-Key; Supplier Part Number 1: 24AA128-I/P-ND; Code_JEDEC: MS-001; ComponentLink1Description: Datasheet; ComponentLink1URL: http://ww1.microchip.com/downloads/en/DeviceDoc/21191R.pdf; ComponentLink2Description: Packaging Specification; ComponentLink2URL: http://www.microchip.com/stellent/groups/techpub_sg/documents/packagingspec/en012702.pdf; ComponentLink3Description: Microchip.com Home; ComponentLink3URL: http://www.microchip.com/
footprint PDIP300-P8 (DIP, 8-Leads, Row Spacing 7.62mm, Pitch 2.54mm, Body 9.5x6.6mm)
pins: 1 A0 (in), 2 A1 (in), 3 A2 (in), 4 VSS (power), 5 SDA (io), 6 SCL (in), 7 WP (in), 8 VCC (power)

## 24AA128-I/SM
designator U?
128Kbit, 400kHz, 1.7V, I2C Serial EEPROM, 8-Pin SOIC 208mil, Industrial Temperature; ComponentAvailability: Unknown. Contact manufacturer to determine status.; Published: 29-Jan-2009; DatasheetVersion: revR, Apr-2009; PackageVersion: revBB, Aug-2009; PackageReference: SOIJ-SM8; Publisher: Altium Limited; PackageDescription: 8-Lead Plastic Small Outline (SM) - Medium, 5.28 mm Body [SOIJ]; Supplier 1: Digi-Key; Supplier Part Number 1: 24AA128-I/SM-ND; ComponentLink1Description: Datasheet; ComponentLink1URL: http://ww1.microchip.com/downloads/en/DeviceDoc/21191R.pdf; ComponentLink2Description: Packaging Specification; ComponentLink2URL: http://www.microchip.com/stellent/groups/techpub_sg/documents/packagingspec/en012702.pdf; ComponentLink3Description: Microchip.com Home; ComponentLink3URL: http://www.microchip.com/
footprint SOIJ-SM8_N (SOP, 8-Leads, Body 5.2x5.2mm, Pitch 1.27mm, IPC Medium Density)
footprint SOIJ-SM8_L (SOP, 8-Leads, Body 5.2x5.2mm, Pitch 1.27mm, IPC High Density)
footprint SOIJ-SM8_M (SOP, 8-Leads, Body 5.2x5.2mm, Pitch 1.27mm, IPC Low Density)
pins: 1 A0 (in), 2 A1 (in), 3 A2 (in), 4 VSS (power), 5 SDA (io), 6 SCL (in), 7 WP (in), 8 VCC (power)

## 24AA128-I/SN
designator U?
128Kbit, 400kHz, 1.7V, I2C Serial EEPROM, 8-Pin SOIC 150mil, Industrial Temperature; Published: 29-Jan-2009; DatasheetVersion: revR, Apr-2009; PackageVersion: revBB, Aug-2009; PackageReference: SOIC-SN8; Publisher: Altium Limited; PackageDescription: 8-Lead Plastic Small Outline (SN) - Narrow, 3.90mm Body [SOIC]; Supplier 1: Digi-Key; Supplier Part Number 1: 24AA128-I/SN-ND; Code_JEDEC: MS-012; Code_IPC: SOIC127P600-8; ComponentLink1Description: Datasheet; ComponentLink1URL: http://ww1.microchip.com/downloads/en/DeviceDoc/21191R.pdf; ComponentLink2Description: Packaging Specification; ComponentLink2URL: http://www.microchip.com/stellent/groups/techpub_sg/documents/packagingspec/en012702.pdf; ComponentLink3Description: Microchip.com Home; ComponentLink3URL: http://www.microchip.com/
footprint SOIC-SN8_N (SOIC, 8-Leads, Body 4.9x3.8mm, Pitch 1.27mm, IPC Medium Density)
footprint SOIC-SN8_L (SOIC, 8-Leads, Body 4.9x3.8mm, Pitch 1.27mm, IPC High Density)
footprint SOIC-SN8_M (SOIC, 8-Leads, Body 4.9x3.8mm, Pitch 1.27mm, IPC Low Density)
pins: 1 A0 (in), 2 A1 (in), 3 A2 (in), 4 VSS (power), 5 SDA (io), 6 SCL (in), 7 WP (in), 8 VCC (power)

## 24AA128-I/ST
designator U?
128Kbit, 400kHz, 1.7V, I2C Serial EEPROM, 8-Pin TSSOP, Industrial Temperature; Published: 29-Jan-2009; DatasheetVersion: revR, Apr-2009; PackageVersion: revBB, Aug-2009; PackageReference: TSSOP-ST8; Publisher: Altium Limited; PackageDescription: 8-Lead Plastic Thin Shrink Small Outline (ST) - 4.4mm Body [TSSOP]; Supplier 1: Digi-Key; Supplier Part Number 1: 24AA128-I/ST-ND; Supplier 2: Farnell; Supplier Part Number 2: 1788570; Code_JEDEC: MO-153; ComponentLink1Description: Datasheet; ComponentLink1URL: http://ww1.microchip.com/downloads/en/DeviceDoc/21191R.pdf; ComponentLink2Description: Packaging Specification; ComponentLink2URL: http://www.microchip.com/stellent/groups/techpub_sg/documents/packagingspec/en012702.pdf; ComponentLink3Description: Microchip.com Home; ComponentLink3URL: http://www.microchip.com/
footprint TSSOP-ST8_N (TSOP, 8-Leads, Body 3x4.4mm, Pitch 0.65mm, IPC Medium Density)
footprint TSSOP-ST8_L (TSOP, 8-Leads, Body 3x4.4mm, Pitch 0.65mm, IPC High Density)
footprint TSSOP-ST8_M (TSOP, 8-Leads, Body 3x4.4mm, Pitch 0.65mm, IPC Low Density)
pins: 1 A0 (in), 2 A1 (in), 3 A2 (in), 4 VSS (power), 5 SDA (io), 6 SCL (in), 7 WP (in), 8 VCC (power)

## 24AA128T-I/MS
designator U?
128Kbit, 400kHz, 1.7V, I2C Serial EEPROM, 8-Pin MSOP, Industrial Temperature, Tape and Reel; Published: 29-Jan-2009; DatasheetVersion: revR, Apr-2009; PackageVersion: revBB, Aug-2009; PackageReference: MSOP-MS8; Publisher: Altium Limited; PackageDescription: 8-Lead Plastic Micro Small Outline Package (MS) [MSOP]; Supplier 1: Digi-Key; Supplier Part Number 1: 24AA128T-I/MS-ND; ComponentLink1Description: Datasheet; ComponentLink1URL: http://ww1.microchip.com/downloads/en/DeviceDoc/21191R.pdf; ComponentLink2Description: Packaging Specification; ComponentLink2URL: http://www.microchip.com/stellent/groups/techpub_sg/documents/packagingspec/en012702.pdf; ComponentLink3Description: Microchip.com Home; ComponentLink3URL: http://www.microchip.com/
footprint MSOP-MS8_N (TSOP, 8-Leads, Body 3x3mm, Pitch 0.65mm, IPC Medium Density)
footprint MSOP-MS8_L (TSOP, 8-Leads, Body 3x3mm, Pitch 0.65mm, IPC High Density)
footprint MSOP-MS8_M (TSOP, 8-Leads, Body 3x3mm, Pitch 0.65mm, IPC Low Density)
pins: 1 NC, 2 NC, 3 A2 (in), 4 VSS (power), 5 SDA (io), 6 SCL (in), 7 WP (in), 8 VCC (power)

## 24AA128T-I/SM
designator U?
128Kbit, 400kHz, 1.7V, I2C Serial EEPROM, 8-Pin SOIC 208mil, Industrial Temperature, Tape and Reel; ComponentAvailability: Unknown. Contact manufacturer to determine status.; Published: 29-Jan-2009; DatasheetVersion: revR, Apr-2009; PackageVersion: revBB, Aug-2009; PackageReference: SOIJ-SM8; Publisher: Altium Limited; PackageDescription: 8-Lead Plastic Small Outline (SM) - Medium, 5.28 mm Body [SOIJ]; Supplier 1: Digi-Key; Supplier Part Number 1: 24AA128T-I/SM-ND; ComponentLink1Description: Datasheet; ComponentLink1URL: http://ww1.microchip.com/downloads/en/DeviceDoc/21191R.pdf; ComponentLink2Description: Packaging Specification; ComponentLink2URL: http://www.microchip.com/stellent/groups/techpub_sg/documents/packagingspec/en012702.pdf; ComponentLink3Description: Microchip.com Home; ComponentLink3URL: http://www.microchip.com/
footprint SOIJ-SM8_N (SOP, 8-Leads, Body 5.2x5.2mm, Pitch 1.27mm, IPC Medium Density)
footprint SOIJ-SM8_L (SOP, 8-Leads, Body 5.2x5.2mm, Pitch 1.27mm, IPC High Density)
footprint SOIJ-SM8_M (SOP, 8-Leads, Body 5.2x5.2mm, Pitch 1.27mm, IPC Low Density)
pins: 1 A0 (in), 2 A1 (in), 3 A2 (in), 4 VSS (power), 5 SDA (io), 6 SCL (in), 7 WP (in), 8 VCC (power)

## 24AA128T-I/SN
designator U?
128Kbit, 400kHz, 1.7V, I2C Serial EEPROM, 8-Pin SOIC 150mil, Industrial Temperature, Tape and Reel; Published: 29-Jan-2009; DatasheetVersion: revR, Apr-2009; PackageVersion: revBB, Aug-2009; PackageReference: SOIC-SN8; Publisher: Altium Limited; PackageDescription: 8-Lead Plastic Small Outline (SN) - Narrow, 3.90mm Body [SOIC]; Supplier 1: Digi-Key; Supplier Part Number 1: 24AA128T-I/SN-ND; Code_JEDEC: MS-012; Code_IPC: SOIC127P600-8; ComponentLink1Description: Datasheet; ComponentLink1URL: http://ww1.microchip.com/downloads/en/DeviceDoc/21191R.pdf; ComponentLink2Description: Packaging Specification; ComponentLink2URL: http://www.microchip.com/stellent/groups/techpub_sg/documents/packagingspec/en012702.pdf; ComponentLink3Description: Microchip.com Home; ComponentLink3URL: http://www.microchip.com/
footprint SOIC-SN8_N (SOIC, 8-Leads, Body 4.9x3.8mm, Pitch 1.27mm, IPC Medium Density)
footprint SOIC-SN8_L (SOIC, 8-Leads, Body 4.9x3.8mm, Pitch 1.27mm, IPC High Density)
footprint SOIC-SN8_M (SOIC, 8-Leads, Body 4.9x3.8mm, Pitch 1.27mm, IPC Low Density)
pins: 1 A0 (in), 2 A1 (in), 3 A2 (in), 4 VSS (power), 5 SDA (io), 6 SCL (in), 7 WP (in), 8 VCC (power)

## 24AA128T-I/ST
designator U?
128Kbit, 400kHz, 1.7V, I2C Serial EEPROM, 8-Pin TSSOP, Industrial Temperature, Tape and Reel; Published: 29-Jan-2009; DatasheetVersion: revR, Apr-2009; PackageVersion: revBB, Aug-2009; PackageReference: TSSOP-ST8; Publisher: Altium Limited; PackageDescription: 8-Lead Plastic Thin Shrink Small Outline (ST) - 4.4mm Body [TSSOP]; Supplier 1: Digi-Key; Supplier Part Number 1: 24AA128T-I/ST-ND; Code_JEDEC: MO-153; ComponentLink1Description: Datasheet; ComponentLink1URL: http://ww1.microchip.com/downloads/en/DeviceDoc/21191R.pdf; ComponentLink2Description: Packaging Specification; ComponentLink2URL: http://www.microchip.com/stellent/groups/techpub_sg/documents/packagingspec/en012702.pdf; ComponentLink3Description: Microchip.com Home; ComponentLink3URL: http://www.microchip.com/
footprint TSSOP-ST8_N (TSOP, 8-Leads, Body 3x4.4mm, Pitch 0.65mm, IPC Medium Density)
footprint TSSOP-ST8_L (TSOP, 8-Leads, Body 3x4.4mm, Pitch 0.65mm, IPC High Density)
footprint TSSOP-ST8_M (TSOP, 8-Leads, Body 3x4.4mm, Pitch 0.65mm, IPC Low Density)
pins: 1 A0 (in), 2 A1 (in), 3 A2 (in), 4 VSS (power), 5 SDA (io), 6 SCL (in), 7 WP (in), 8 VCC (power)

## 24AA256-I/MF
designator U?
256Kbit, 400kHz, 1.8V, I2C Serial EEPROM, 8-Pin DFN Punch Singulated, Industrial Temperature; Published: 29-Jan-2009; DatasheetVersion: revP, Oct-2007; PackageVersion: revBB, Aug-2009; PackageReference: DFNS-MF8_PS; Publisher: Altium Limited; PackageDescription: 8-Lead Plastic Dual Flat, No Lead Package (MF) - 6x5 mm Body [DFN-S] Punch Singulated; Supplier 1: Digi-Key; Supplier Part Number 1: 24AA256-I/MF-ND; Supplier 2: Farnell; Supplier Part Number 2: 1331291; ComponentLink1Description: Datasheet; ComponentLink1URL: http://ww1.microchip.com/downloads/en/DeviceDoc/21203P.pdf; ComponentLink2Description: Packaging Specification; ComponentLink2URL: http://www.microchip.com/stellent/groups/techpub_sg/documents/packagingspec/en012702.pdf; ComponentLink3Description: Microchip.com Home; ComponentLink3URL: http://www.microchip.com/
footprint DFNS-MF8_PS (SON, 8-Leads, Body 5x6mm, Pitch 1.27mm)
pins: 1 A0 (in), 2 A1 (in), 3 A2 (in), 4 VSS (power), 5 SDA (io), 6 SCL (in), 7 WP (in), 8 VCC (power), 9 DAP (power)

## 24AA256-I/MS
designator U?
256Kbit, 400kHz, 1.8V, I2C Serial EEPROM, 8-Pin MSOP, Industrial Temperature; Published: 29-Jan-2009; DatasheetVersion: revP, Oct-2007; PackageVersion: revBB, Aug-2009; PackageReference: MSOP-MS8; Publisher: Altium Limited; PackageDescription: 8-Lead Plastic Micro Small Outline Package (MS) [MSOP]; Supplier 1: Digi-Key; Supplier Part Number 1: 24AA256-I/MS-ND; Supplier 2: Farnell; Supplier Part Number 2: 1331293; ComponentLink1Description: Datasheet; ComponentLink1URL: http://ww1.microchip.com/downloads/en/DeviceDoc/21203P.pdf; ComponentLink2Description: Packaging Specification; ComponentLink2URL: http://www.microchip.com/stellent/groups/techpub_sg/documents/packagingspec/en012702.pdf; ComponentLink3Description: Microchip.com Home; ComponentLink3URL: http://www.microchip.com/
footprint MSOP-MS8_N (TSOP, 8-Leads, Body 3x3mm, Pitch 0.65mm, IPC Medium Density)
footprint MSOP-MS8_L (TSOP, 8-Leads, Body 3x3mm, Pitch 0.65mm, IPC High Density)
footprint MSOP-MS8_M (TSOP, 8-Leads, Body 3x3mm, Pitch 0.65mm, IPC Low Density)
pins: 1 NC, 2 NC, 3 A2 (in), 4 VSS (power), 5 SDA (io), 6 SCL (in), 7 WP (in), 8 VCC (power)

## 24AA256-I/P
designator U?
256Kbit, 400kHz, 1.8V, I2C Serial EEPROM, 8-Pin PDIP, Industrial Temperature; Published: 29-Jan-2009; DatasheetVersion: revP, Oct-2007; PackageVersion: revBB, Aug-2009; PackageReference: PDIP300-P8; Publisher: Altium Limited; PackageDescription: 8-Lead Plastic Dual In-Line (P) - 300 mil Body [PDIP]; Supplier 1: Digi-Key; Supplier Part Number 1: 24AA256-I/P-ND; Supplier 2: Farnell; Supplier Part Number 2: 1331294; Code_JEDEC: MS-001; ComponentLink1Description: Datasheet; ComponentLink1URL: http://ww1.microchip.com/downloads/en/DeviceDoc/21203P.pdf; ComponentLink2Description: Packaging Specification; ComponentLink2URL: http://www.microchip.com/stellent/groups/techpub_sg/documents/packagingspec/en012702.pdf; ComponentLink3Description: Microchip.com Home; ComponentLink3URL: http://www.microchip.com/
footprint PDIP300-P8 (DIP, 8-Leads, Row Spacing 7.62mm, Pitch 2.54mm, Body 9.5x6.6mm)
pins: 1 A0 (in), 2 A1 (in), 3 A2 (in), 4 VSS (power), 5 SDA (io), 6 SCL (in), 7 WP (in), 8 VCC (power)

## 24AA256-I/SM
designator U?
256Kbit, 400kHz, 1.8V, I2C Serial EEPROM, 8-Pin SOIC 208mil, Industrial Temperature; Published: 29-Jan-2009; DatasheetVersion: revP, Oct-2007; PackageVersion: revBB, Aug-2009; PackageReference: SOIJ-SM8; Publisher: Altium Limited; PackageDescription: 8-Lead Plastic Small Outline (SM) - Medium, 5.28 mm Body [SOIJ]; Supplier 1: Digi-Key; Supplier Part Number 1: 24AA256-I/SM-ND; ComponentLink1Description: Datasheet; ComponentLink1URL: http://ww1.microchip.com/downloads/en/DeviceDoc/21203P.pdf; ComponentLink2Description: Packaging Specification; ComponentLink2URL: http://www.microchip.com/stellent/groups/techpub_sg/documents/packagingspec/en012702.pdf; ComponentLink3Description: Microchip.com Home; ComponentLink3URL: http://www.microchip.com/
footprint SOIJ-SM8_N (SOP, 8-Leads, Body 5.2x5.2mm, Pitch 1.27mm, IPC Medium Density)
footprint SOIJ-SM8_L (SOP, 8-Leads, Body 5.2x5.2mm, Pitch 1.27mm, IPC High Density)
footprint SOIJ-SM8_M (SOP, 8-Leads, Body 5.2x5.2mm, Pitch 1.27mm, IPC Low Density)
pins: 1 A0 (in), 2 A1 (in), 3 A2 (in), 4 VSS (power), 5 SDA (io), 6 SCL (in), 7 WP (in), 8 VCC (power)

## 24AA256-I/SN
designator U?
256Kbit, 400kHz, 1.8V, I2C Serial EEPROM, 8-Pin SOIC 150mil, Industrial Temperature; Published: 29-Jan-2009; DatasheetVersion: revP, Oct-2007; PackageVersion: revBB, Aug-2009; PackageReference: SOIC-SN8; Publisher: Altium Limited; PackageDescription: 8-Lead Plastic Small Outline (SN) - Narrow, 3.90mm Body [SOIC]; Supplier 1: Digi-Key; Supplier Part Number 1: 24AA256-I/SN-ND; Supplier 2: Farnell; Supplier Part Number 2: 1331295; Code_JEDEC: MS-012; Code_IPC: SOIC127P600-8; ComponentLink1Description: Datasheet; ComponentLink1URL: http://ww1.microchip.com/downloads/en/DeviceDoc/21203P.pdf; ComponentLink2Description: Packaging Specification; ComponentLink2URL: http://www.microchip.com/stellent/groups/techpub_sg/documents/packagingspec/en012702.pdf; ComponentLink3Description: Microchip.com Home; ComponentLink3URL: http://www.microchip.com/
footprint SOIC-SN8_N (SOIC, 8-Leads, Body 4.9x3.8mm, Pitch 1.27mm, IPC Medium Density)
footprint SOIC-SN8_L (SOIC, 8-Leads, Body 4.9x3.8mm, Pitch 1.27mm, IPC High Density)
footprint SOIC-SN8_M (SOIC, 8-Leads, Body 4.9x3.8mm, Pitch 1.27mm, IPC Low Density)
pins: 1 A0 (in), 2 A1 (in), 3 A2 (in), 4 VSS (power), 5 SDA (io), 6 SCL (in), 7 WP (in), 8 VCC (power)